# Altium footprint library led_3mm.PcbLib: 1 footprints
Each footprint in its own frame and in the unit in brackets; x right, y up, seen from the top. Pads: shape width x height; smd on the part's side, far side on the other; paste and mask are expansions set on the pad; w line width, h text height; cw(c..) or ccw(c..) is an arc to the next point about the centre after c.
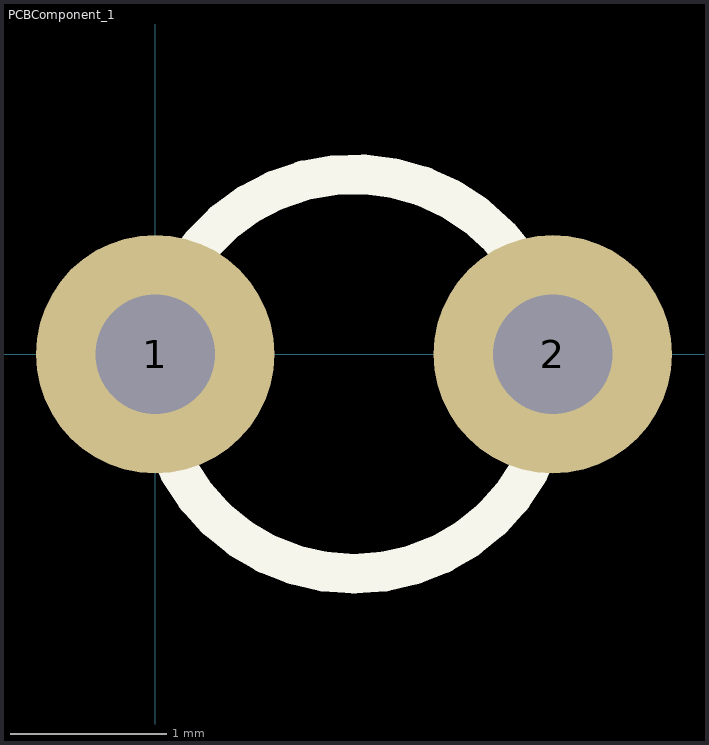
[diagram p0: the footprint, top view; thin cyan lines are the x and y axes]

## PCBComponent_1 [mil]
pads (2):
  round 60 hole 30: 1(0,0) 2(100,0)
Top Overlay:
  lines w10: 100,0 cw(c50,-5) 0,0 cw(c50,-5) 100.25,-5
3D body "3mm_LED.stp": height -1014.05, standoff -1695.12, extent -20,-76.72 123.43,66.72